# EAGLE library part PMDT290 (library AWJLEagleLib)
NXP PMDT290 dual N-channel MOSFET
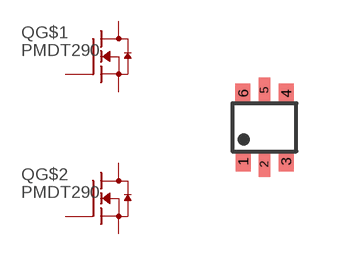
[diagram p14: symbol with the pads of SOT666; footprint SOT666]

Designator prefix Q; gates G$1=N-MOSFET-D G$2=N-MOSFET-D

## PMDT290  [SOT666]
1  G$1:S  pas
2  G$1:G  pas
3  G$2:D  pas
4  G$2:S  pas
5  G$2:G  pas
6  G$1:D  pas

## Footprint SOT666 (pad centres in mm)
smd 0.375 x 0.5: 1 -0.537,-0.85; 3 0.538,-0.85; 4 0.538,0.849; 6 -0.538,0.85
smd 0.3 x 0.65: 2 0,-0.923; 5 0,0.925